# Altium schematic symbol library SL2.1A.SCHLIB: 1 symbol
Pins are listed as number, name and electrical type; pins without a type are passive.

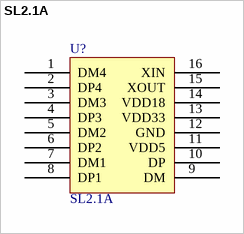
[diagram p0: symbol SL2.1A]

## SL2.1A
designator U?
footprint SOP16 (封装库来自淘宝卖家 ID：黄晶宝石)
footprint SOP16 (封装库来自淘宝卖家 ID：黄晶宝石)
pins: 1 DM4, 2 DP4, 3 DM3, 4 DP3, 5 DM2, 6 DP2, 7 DM1, 8 DP1, 9 DM, 10 DP, 11 VDD5, 12 GND, 13 VDD33, 14 VDD18, 15 XOUT, 16 XIN